# EAGLE library part FLYBACK (library common)
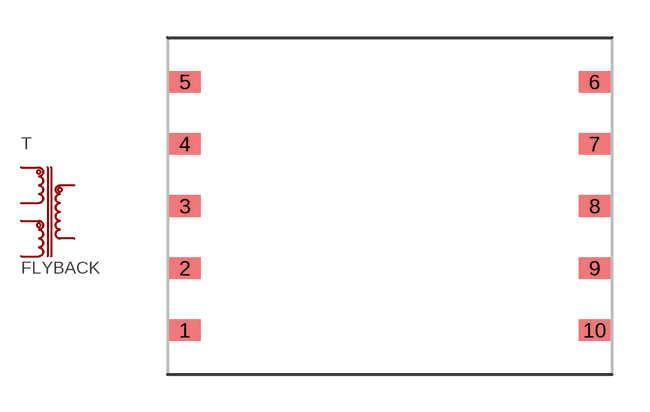
[diagram p27: symbol with the pads of PKG-0499; footprint PKG-0499]

Designator prefix T

## FLYBACKXFMR-EP13  [PKG-0499]
1  1
2  2
3  3
5  5
6  6+7
7  6+7
9  9+10
10  9+10

## Footprint PKG-0499 (pad centres in mm)
smd 1.27 x 0.86: 1 -8.18,-4.96; 2 -8.18,-2.48; 3 -8.18,0; 4 -8.18,2.48; 5 -8.18,4.96; 6 8.18,4.96; 7 8.18,2.48; 8 8.18,0; 9 8.18,-2.48; 10 8.18,-4.96